# EAGLE library part INFINEON_BTS5020-2EKA-DUP (library mosfet-infineon)
PROFET+ 12V BTS5020-2EKA Smart High-Side Power Switch Dual Channel, 20mOhm
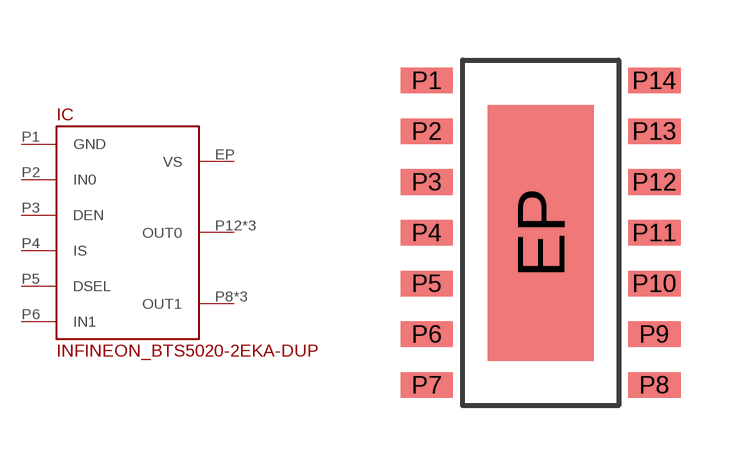
[diagram p88: symbol with the pads of IFX_PG_DSO_14_40_EP-DUP; footprint IFX_PG_DSO_14_40_EP-DUP]

Designator prefix IC

## INFINEON_BTS5020-2EKA-DUP  [IFX_PG_DSO_14_40_EP-DUP]
EP  VS
P1  GND
P2  IN0
P3  DEN
P4  IS
P5  DSEL
P6  IN1
P8  OUT1
P9  OUT1
P10  OUT1
P12  OUT0
P13  OUT0
P14  OUT0

## Footprint IFX_PG_DSO_14_40_EP-DUP (pad centres in mm)
smd 2.65 x 6.4: EP 0,0
smd 1.31 x 0.64: P1 -2.845,3.81; P2 -2.845,2.54; P3 -2.845,1.27; P4 -2.845,0; P5 -2.845,-1.27; P6 -2.845,-2.54; P7 -2.845,-3.81; P8 2.845,-3.81; P9 2.845,-2.54; P10 2.845,-1.27; P11 2.845,0; P12 2.845,1.27; P13 2.845,2.54; P14 2.845,3.81